# Altium integrated library WE-TIS Shielded Radial Leaded Wire Wound Inductor.IntLib: 32 symbols
Pins are listed as number, name and electrical type; pins without a type are passive.

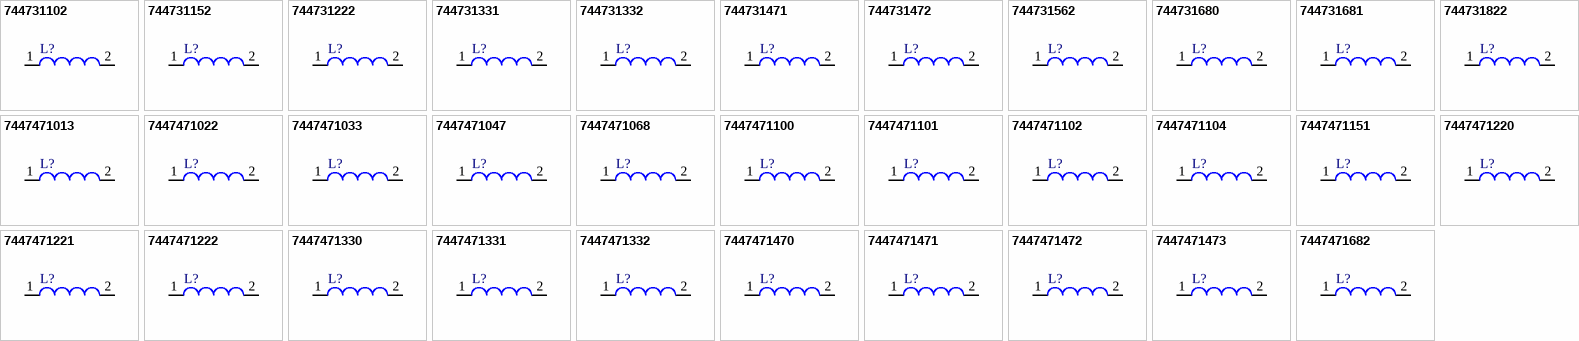
[diagram p0: symbols 744731102 to 7447471682]

## 744731102
designator L?
Radial Leaded Wire Wound Inductor WE-TI, L = 1000 µH; PartNumber: 744731102; DatasheetVersion: ver 3, Apr-2011; PackageReference: WE-TI-LM-SHLD; PackageDescription: THT Inductor, 2-Leads, Body 7.8 x 7.8 mm; ComponentLink1Description: Manufacturer URL; ComponentLink1URL: http://www.we-online.com; ComponentLink2Description: Datasheet; ComponentLink2URL: http://www.we-online.de/katalog/media/pdf/744731102.pdf
footprint WE-TI-LM-SHLD (THT Inductor, 2-Leads, Body 7.8x7.8x7.5 mm)
pins: 1, 2

## 744731152
designator L?
Shielded Radial Leaded Wire Wound Inductor WE-TIS, L=1500 µH; PartNumber: 744731152; Inductance: 1500 µH; PackageReference: WE-TI-LM-SHLD; PackageDescription: THT Inductor, 2-Leads, Body 7.8 x 7.8 mm; ComponentLink1Description: Manufacturer URL; ComponentLink1URL: http://www.we-online.com; ComponentLink2Description: Datasheet; ComponentLink2URL: http://www.we-online.de/katalog/media/pdf/744731152.pdf
footprint WE-TI-LM-SHLD (THT Inductor, 2-Leads, Body 7.8x7.8x7.5 mm)
pins: 1, 2

## 744731222
designator L?
Radial Leaded Wire Wound Inductor WE-TI, L = 2200 µH; PartNumber: 744731222; DatasheetVersion: ver 1, Feb-2008; PackageReference: WE-TI-LM-SHLD; PackageDescription: THT Inductor, 2-Leads, Body 7.8 x 7.8 mm; ComponentLink1Description: Manufacturer URL; ComponentLink1URL: http://www.we-online.com; ComponentLink2Description: Datasheet; ComponentLink2URL: http://www.we-online.de/katalog/media/pdf/744731222.pdf
footprint WE-TI-LM-SHLD (THT Inductor, 2-Leads, Body 7.8x7.8x7.5 mm)
pins: 1, 2

## 744731331
designator L?
Shielded Radial Leaded Wire Wound Inductor WE-TIS, L=330 µH; PartNumber: 744731331; Inductance: 330 µH; PackageReference: WE-TI-LM-SHLD; PackageDescription: THT Inductor, 2-Leads, Body 7.8 x 7.8 mm; ComponentLink1Description: Manufacturer URL; ComponentLink1URL: http://www.we-online.com; ComponentLink2Description: Datasheet; ComponentLink2URL: http://www.we-online.de/katalog/media/pdf/744731331.pdf
footprint WE-TI-LM-SHLD (THT Inductor, 2-Leads, Body 7.8x7.8x7.5 mm)
pins: 1, 2

## 744731332
designator L?
Radial Leaded Wire Wound Inductor WE-TI, L = 3300 µH; PartNumber: 744731332; DatasheetVersion: ver 1, Feb-2008; PackageReference: WE-TI-LM-SHLD; PackageDescription: THT Inductor, 2-Leads, Body 7.8 x 7.8 mm; ComponentLink1Description: Manufacturer URL; ComponentLink1URL: http://www.we-online.com; ComponentLink2Description: Datasheet; ComponentLink2URL: http://www.we-online.de/katalog/media/pdf/744731332.pdf
footprint WE-TI-LM-SHLD (THT Inductor, 2-Leads, Body 7.8x7.8x7.5 mm)
pins: 1, 2

## 744731471
designator L?
Radial Leaded Wire Wound Inductor WE-TI, L = 470 µH; PartNumber: 744731471; DatasheetVersion: ver 3, Mar-2011; PackageReference: WE-TI-LM-SHLD; PackageDescription: THT Inductor, 2-Leads, Body 7.8 x 7.8 mm; ComponentLink1Description: Manufacturer URL; ComponentLink1URL: http://www.we-online.com; ComponentLink2Description: Datasheet; ComponentLink2URL: http://www.we-online.de/katalog/media/pdf/744731471.pdf
footprint WE-TI-LM-SHLD (THT Inductor, 2-Leads, Body 7.8x7.8x7.5 mm)
pins: 1, 2

## 744731472
designator L?
Radial Leaded Wire Wound Inductor WE-TI, L = 4700 µH; PartNumber: 744731472; DatasheetVersion: ver 3, Apr-2011; PackageReference: WE-TI-LM-SHLD; PackageDescription: THT Inductor, 2-Leads, Body 7.8 x 7.8 mm; ComponentLink1Description: Manufacturer URL; ComponentLink1URL: http://www.we-online.com; ComponentLink2Description: Datasheet; ComponentLink2URL: http://www.we-online.de/katalog/media/pdf/744731472.pdf
footprint WE-TI-LM-SHLD (THT Inductor, 2-Leads, Body 7.8x7.8x7.5 mm)
pins: 1, 2

## 744731562
designator L?
Radial Leaded Wire Wound Inductor WE-TI, L = 5600 µH; PartNumber: 744731562; DatasheetVersion: ver 3, Apr-2011; PackageReference: WE-TI-LM-SHLD; PackageDescription: THT Inductor, 2-Leads, Body 7.8 x 7.8 mm; ComponentLink1Description: Manufacturer URL; ComponentLink1URL: http://www.we-online.com; ComponentLink2Description: Datasheet; ComponentLink2URL: http://www.we-online.de/katalog/media/pdf/744731562.pdf
footprint WE-TI-LM-SHLD (THT Inductor, 2-Leads, Body 7.8x7.8x7.5 mm)
pins: 1, 2

## 744731680
designator L?
Radial Leaded Wire Wound Inductor WE-TI, L = 68.0 µH; PartNumber: 744731680; DatasheetVersion: ver 3, Mar-2011; PackageReference: WE-TI-LM-SHLD; PackageDescription: THT Inductor, 2-Leads, Body 7.8 x 7.8 mm; ComponentLink1Description: Manufacturer URL; ComponentLink1URL: http://www.we-online.com; ComponentLink2Description: Datasheet; ComponentLink2URL: http://www.we-online.de/katalog/media/pdf/744731680.pdf
footprint WE-TI-LM-SHLD (THT Inductor, 2-Leads, Body 7.8x7.8x7.5 mm)
pins: 1, 2

## 744731681
designator L?
Shielded Radial Leaded Wire Wound Inductor WE-TIS, L=680 µH; PartNumber: 744731681; Inductance: 680 µH; PackageReference: WE-TI-LM-SHLD; PackageDescription: THT Inductor, 2-Leads, Body 7.8 x 7.8 mm; ComponentLink1Description: Manufacturer URL; ComponentLink1URL: http://www.we-online.com; ComponentLink2Description: Datasheet; ComponentLink2URL: http://www.we-online.de/katalog/media/pdf/744731681.pdf
footprint WE-TI-LM-SHLD (THT Inductor, 2-Leads, Body 7.8x7.8x7.5 mm)
pins: 1, 2

## 744731822
designator L?
Shielded Radial Leaded Wire Wound Inductor WE-TIS, L=8200 µH; PartNumber: 744731822; Inductance: 8200 µH; PackageReference: WE-TI-LM-SHLD; PackageDescription: THT Inductor, 2-Leads, Body 7.8 x 7.8 mm; ComponentLink1Description: Manufacturer URL; ComponentLink1URL: http://www.we-online.com; ComponentLink2Description: Datasheet; ComponentLink2URL: http://www.we-online.de/katalog/media/pdf/744731822.pdf
footprint WE-TI-LM-SHLD (THT Inductor, 2-Leads, Body 7.8x7.8x7.5 mm)
pins: 1, 2

## 7447471013
designator L?
Shielded Radial Leaded Wire Wound Inductor WE-TIS, L=1.30 µH; PartNumber: 7447471013; Inductance: 1.30 µH; PackageReference: WE-TIS 1111; ComponentLink1Description: Manufacturer URL; ComponentLink1URL: http://www.we-online.com; ComponentLink2Description: Datasheet; ComponentLink2URL: http://www.we-online.de/katalog/media/pdf/7447471013.pdf
footprint WE-TIS 1111 (THT, 2-Leads, Body 11,0x11,0mm, Pitch 5mm)
pins: 1, 2

## 7447471022
designator L?
Shielded Radial Leaded Wire Wound Inductor WE-TIS, L=2.20 µH; PartNumber: 7447471022; Inductance: 2.20 µH; PackageReference: WE-TIS 1111; ComponentLink1Description: Manufacturer URL; ComponentLink1URL: http://www.we-online.com; ComponentLink2Description: Datasheet; ComponentLink2URL: http://www.we-online.de/katalog/media/pdf/7447471022.pdf
footprint WE-TIS 1111 (THT, 2-Leads, Body 11,0x11,0mm, Pitch 5mm)
pins: 1, 2

## 7447471033
designator L?
Shielded Radial Leaded Wire Wound Inductor WE-TIS, L=3.30 µH; PartNumber: 7447471033; Inductance: 3.30 µH; PackageReference: WE-TIS 1111; ComponentLink1Description: Manufacturer URL; ComponentLink1URL: http://www.we-online.com; ComponentLink2Description: Datasheet; ComponentLink2URL: http://www.we-online.de/katalog/media/pdf/7447471033.pdf
footprint WE-TIS 1111 (THT, 2-Leads, Body 11,0x11,0mm, Pitch 5mm)
pins: 1, 2

## 7447471047
designator L?
Shielded Radial Leaded Wire Wound Inductor WE-TIS, L=4.70 µH; PartNumber: 7447471047; Inductance: 4.70 µH; PackageReference: WE-TIS 1111; ComponentLink1Description: Manufacturer URL; ComponentLink1URL: http://www.we-online.com; ComponentLink2Description: Datasheet; ComponentLink2URL: http://www.we-online.de/katalog/media/pdf/7447471047.pdf
footprint WE-TIS 1111 (THT, 2-Leads, Body 11,0x11,0mm, Pitch 5mm)
pins: 1, 2

## 7447471068
designator L?
Shielded Radial Leaded Wire Wound Inductor WE-TIS, L=6.80 µH; PartNumber: 7447471068; Inductance: 6.80 µH; PackageReference: WE-TIS 1111; ComponentLink1Description: Manufacturer URL; ComponentLink1URL: http://www.we-online.com; ComponentLink2Description: Datasheet; ComponentLink2URL: http://www.we-online.de/katalog/media/pdf/7447471068.pdf
footprint WE-TIS 1111 (THT, 2-Leads, Body 11,0x11,0mm, Pitch 5mm)
pins: 1, 2

## 7447471100
designator L?
Shielded Radial Leaded Wire Wound Inductor WE-TIS, L=10.0 µH; PartNumber: 7447471100; Inductance: 10.0 µH; PackageReference: WE-TIS 1111; ComponentLink1Description: Manufacturer URL; ComponentLink1URL: http://www.we-online.com; ComponentLink2Description: Datasheet; ComponentLink2URL: http://www.we-online.de/katalog/media/pdf/7447471100.pdf
footprint WE-TIS 1111 (THT, 2-Leads, Body 11,0x11,0mm, Pitch 5mm)
pins: 1, 2

## 7447471101
designator L?
Shielded Radial Leaded Wire Wound Inductor WE-TIS, L=100 µH; PartNumber: 7447471101; Inductance: 100 µH; PackageReference: WE-TIS 1111; ComponentLink1Description: Manufacturer URL; ComponentLink1URL: http://www.we-online.com; ComponentLink2Description: Datasheet; ComponentLink2URL: http://www.we-online.de/katalog/media/pdf/7447471101.pdf
footprint WE-TIS 1111 (THT, 2-Leads, Body 11,0x11,0mm, Pitch 5mm)
pins: 1, 2

## 7447471102
designator L?
Shielded Radial Leaded Wire Wound Inductor WE-TIS, L=1000 µH; PartNumber: 7447471102; Inductance: 1000 µH; PackageReference: WE-TIS 1111; ComponentLink1Description: Manufacturer URL; ComponentLink1URL: http://www.we-online.com; ComponentLink2Description: Datasheet; ComponentLink2URL: http://www.we-online.de/katalog/media/pdf/7447471102.pdf
footprint WE-TIS 1111 (THT, 2-Leads, Body 11,0x11,0mm, Pitch 5mm)
pins: 1, 2

## 7447471104
designator L?
Shielded Radial Leaded Wire Wound Inductor WE-TIS, L=100000 µH; PartNumber: 7447471104; PackageReference: WE-TIS 1111; Inductance: 100000 µH; ComponentLink1Description: Manufacturer URL; ComponentLink1URL: http://www.we-online.com; ComponentLink2Description: Datasheet; ComponentLink2URL: http://www.we-online.de/katalog/media/pdf/7447471104.pdf
footprint WE-TIS 1111 (THT, 2-Leads, Body 11,0x11,0mm, Pitch 5mm)
pins: 1, 2

## 7447471151
designator L?
Shielded Radial Leaded Wire Wound Inductor WE-TIS, L=150 µH; PartNumber: 7447471151; Inductance: 150 µH; PackageReference: WE-TIS 1111; ComponentLink1Description: Manufacturer URL; ComponentLink1URL: http://www.we-online.com; ComponentLink2Description: Datasheet; ComponentLink2URL: http://www.we-online.de/katalog/media/pdf/7447471151.pdf
footprint WE-TIS 1111 (THT, 2-Leads, Body 11,0x11,0mm, Pitch 5mm)
pins: 1, 2

## 7447471220
designator L?
Shielded Radial Leaded Wire Wound Inductor WE-TIS, L=22.0 µH; PartNumber: 7447471220; Inductance: 22.0 µH; PackageReference: WE-TIS 1111; ComponentLink1Description: Manufacturer URL; ComponentLink1URL: http://www.we-online.com; ComponentLink2Description: Datasheet; ComponentLink2URL: http://www.we-online.de/katalog/media/pdf/7447471220.pdf
footprint WE-TIS 1111 (THT, 2-Leads, Body 11,0x11,0mm, Pitch 5mm)
pins: 1, 2

## 7447471221
designator L?
Shielded Radial Leaded Wire Wound Inductor WE-TIS, L=220 µH; PartNumber: 7447471221; Inductance: 220 µH; PackageReference: WE-TIS 1111; ComponentLink1Description: Manufacturer URL; ComponentLink1URL: http://www.we-online.com; ComponentLink2Description: Datasheet; ComponentLink2URL: http://www.we-online.de/katalog/media/pdf/7447471221.pdf
footprint WE-TIS 1111 (THT, 2-Leads, Body 11,0x11,0mm, Pitch 5mm)
pins: 1, 2

## 7447471222
designator L?
Shielded Radial Leaded Wire Wound Inductor WE-TIS, L=2200 µH; PartNumber: 7447471222; Inductance: 2200 µH; PackageReference: WE-TIS 1111; ComponentLink1Description: Manufacturer URL; ComponentLink1URL: http://www.we-online.com; ComponentLink2Description: Datasheet; ComponentLink2URL: http://www.we-online.de/katalog/media/pdf/7447471222.pdf
footprint WE-TIS 1111 (THT, 2-Leads, Body 11,0x11,0mm, Pitch 5mm)
pins: 1, 2

## 7447471330
designator L?
Shielded Radial Leaded Wire Wound Inductor WE-TIS, L=33.0 µH; PartNumber: 7447471330; Inductance: 33.0 µH; PackageReference: WE-TIS 1111; ComponentLink1Description: Manufacturer URL; ComponentLink1URL: http://www.we-online.com; ComponentLink2Description: Datasheet; ComponentLink2URL: http://www.we-online.de/katalog/media/pdf/7447471330.pdf
footprint WE-TIS 1111 (THT, 2-Leads, Body 11,0x11,0mm, Pitch 5mm)
pins: 1, 2

## 7447471331
designator L?
Shielded Radial Leaded Wire Wound Inductor WE-TIS, L=330 µH; PartNumber: 7447471331; Inductance: 330 µH; PackageReference: WE-TIS 1111; ComponentLink1Description: Manufacturer URL; ComponentLink1URL: http://www.we-online.com; ComponentLink2Description: Datasheet; ComponentLink2URL: http://www.we-online.de/katalog/media/pdf/7447471331.pdf
footprint WE-TIS 1111 (THT, 2-Leads, Body 11,0x11,0mm, Pitch 5mm)
pins: 1, 2

## 7447471332
designator L?
Shielded Radial Leaded Wire Wound Inductor WE-TIS, L=3300 µH; PartNumber: 7447471332; Inductance: 3300 µH; PackageReference: WE-TIS 1111; ComponentLink1Description: Manufacturer URL; ComponentLink1URL: http://www.we-online.com; ComponentLink2Description: Datasheet; ComponentLink2URL: http://www.we-online.de/katalog/media/pdf/7447471332.pdf
footprint WE-TIS 1111 (THT, 2-Leads, Body 11,0x11,0mm, Pitch 5mm)
pins: 1, 2

## 7447471470
designator L?
Shielded Radial Leaded Wire Wound Inductor WE-TIS, L=47.0 µH; PartNumber: 7447471470; Inductance: 47.0 µH; PackageReference: WE-TIS 1111; ComponentLink1Description: Manufacturer URL; ComponentLink1URL: http://www.we-online.com; ComponentLink2Description: Datasheet; ComponentLink2URL: http://www.we-online.de/katalog/media/pdf/7447471470.pdf
footprint WE-TIS 1111 (THT, 2-Leads, Body 11,0x11,0mm, Pitch 5mm)
pins: 1, 2

## 7447471471
designator L?
Shielded Radial Leaded Wire Wound Inductor WE-TIS, L=470 µH; PartNumber: 7447471471; Inductance: 470 µH; PackageReference: WE-TIS 1111; ComponentLink1Description: Manufacturer URL; ComponentLink1URL: http://www.we-online.com; ComponentLink2Description: Datasheet; ComponentLink2URL: http://www.we-online.de/katalog/media/pdf/7447471471.pdf
footprint WE-TIS 1111 (THT, 2-Leads, Body 11,0x11,0mm, Pitch 5mm)
pins: 1, 2

## 7447471472
designator L?
Shielded Radial Leaded Wire Wound Inductor WE-TIS, L=4700 µH; PartNumber: 7447471472; Inductance: 4700 µH; PackageReference: WE-TIS 1111; ComponentLink1Description: Manufacturer URL; ComponentLink1URL: http://www.we-online.com; ComponentLink2Description: Datasheet; ComponentLink2URL: http://www.we-online.de/katalog/media/pdf/7447471472.pdf
footprint WE-TIS 1111 (THT, 2-Leads, Body 11,0x11,0mm, Pitch 5mm)
pins: 1, 2

## 7447471473
designator L?
Shielded Radial Leaded Wire Wound Inductor WE-TIS, L=47000 µH; PartNumber: 7447471473; PackageReference: WE-TIS 1111; Inductance: 47000 µH; ComponentLink1Description: Manufacturer URL; ComponentLink1URL: http://www.we-online.com; ComponentLink2Description: Datasheet; ComponentLink2URL: http://www.we-online.de/katalog/media/pdf/7447471473.pdf
footprint WE-TIS 1111 (THT, 2-Leads, Body 11,0x11,0mm, Pitch 5mm)
pins: 1, 2

## 7447471682
designator L?
Shielded Radial Leaded Wire Wound Inductor WE-TIS, L=6800 µH; PartNumber: 7447471682; Inductance: 6800 µH; PackageReference: WE-TIS 1111; ComponentLink1Description: Manufacturer URL; ComponentLink1URL: http://www.we-online.com; ComponentLink2Description: Datasheet; ComponentLink2URL: http://www.we-online.de/katalog/media/pdf/7447471682.pdf
footprint WE-TIS 1111 (THT, 2-Leads, Body 11,0x11,0mm, Pitch 5mm)
pins: 1, 2